# Altium footprint library iot_hdmi_mux.PcbLib: 22 footprints (part 1 of 2)
Each footprint in its own frame and in the unit in brackets; x right, y up, seen from the top. Pads: shape width x height; smd on the part's side, far side on the other; paste and mask are expansions set on the pad; w line width, h text height; cw(c..) or ccw(c..) is an arc to the next point about the centre after c.
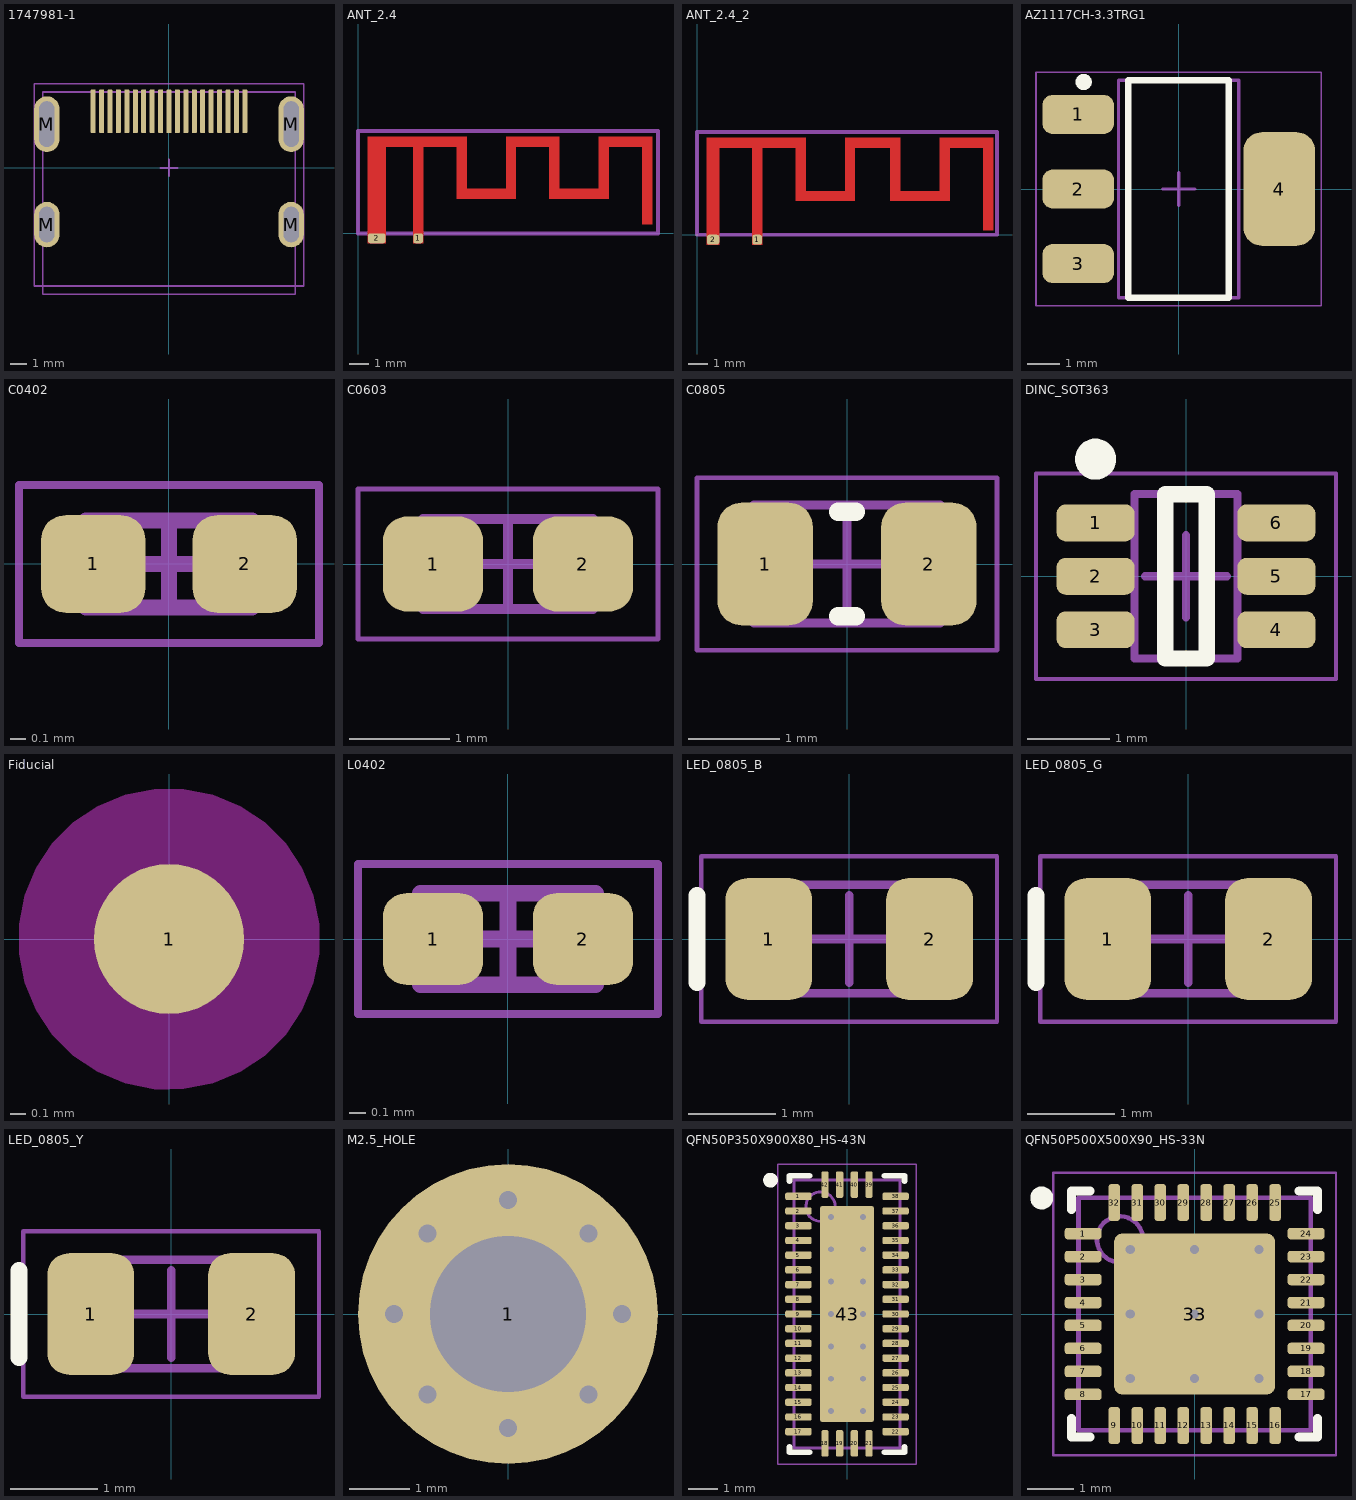
[diagram p0: the footprints below, top view; thin cyan lines are the x and y axes]

## 1747981-1 [mm] "19P Female HDMI Horizontal attachment 500mA -25℃~+70℃ SMD D-Sub / VGA Connectors ROHS"
pads (23):
  rrect50% 0.3x2.6 smd: 1(4.5,3.36) 2(4,3.36) 3(3.5,3.36) 4(3,3.36) 5(2.5,3.36) 6(2,3.36) 7(1.5,3.36) 8(1,3.36) 9(0.5,3.36) 10(0,3.36) 11(-0.5,3.36) 12(-1,3.36) 13(-1.5,3.36) 14(-2,3.36) 15(-2.5,3.36) 16(-3,3.36) 17(-3.5,3.36) 18(-4,3.36) 19(-4.5,3.36)
  oval 1.5x2.7 hole 0.9 slot 2.1 at 90 deg: M(-7.25,-3.36) M(7.25,-3.36)
  oval 1.5x3.3 hole 0.9 slot 2.7 at 90 deg: M(-7.25,2.6) M(7.25,2.6)
Mechanical 13:
  lines w0.1: -7.5,-7.5 -7.5,4.5 7.5,4.5 7.5,-7.5 -7.5,-7.5
Mechanical 15:
  lines w0.1: -0.5,0 0.5,0 ; 0,-0.5 0,0.5 ; -8,-7 -8,5 8,5 8,-7 4,-7 -4,-7 -8,-7
3D body "1747981-2.stp": height 6.1, standoff -1.48, extent -7.5,-7.45 7.5,4.55

## ANT_2.4 [mm] "SWRA117D 2.4GHz antenna design by TI"
pads (2):
  rrect50% 0.5x0.5 smd paste-2539.97 mask+0.102: 1(3.05,-0.25)
  rrect50% 0.9x0.5 smd paste-2539.97 mask+0.102: 2(0.95,-0.25)
Top Layer:
  region: 0.5,-0.5 1.4,-0.5 1.4,4.4 2.8,4.4 2.8,-0.5 3.3,-0.5 3.3,4.4 5,4.4 5,1.76 8,1.76 8,4.4 9.7,4.4 9.7,1.76 12.7,1.76 12.7,4.4 14.4,4.4 14.4,0.46 14.9,0.46 14.9,4.9 12.2,4.9 12.2,2.26 10.2,2.26 10.2,4.9 7.5,4.9 7.5,2.26 5.5,2.26 5.5,4.9 0.5,4.9
Mechanical 15:
  lines w0.2: 0,0 1.4,0 15.2,0 15.2,5.2 0,5.2 0,0

## ANT_2.4_2 [mm] "SWRA117D 2.4GHz antenna design by TI"
pads (2):
  rrect50% 0.5x0.5 smd paste-2539.97 mask+0.102: 1(3.05,-0.25)
  rrect50% 0.63x0.5 smd paste-2539.97 mask+0.102: 2(0.815,-0.25)
Top Layer:
  region: 0.5,-0.5 0.5,4.91 5.5,4.91 5.5,2.21 7.5,2.21 7.5,4.91 10.3,4.91 10.3,2.21 12.3,2.21 12.3,4.91 15,4.91 15,0.24 14.5,0.24 14.5,4.41 12.8,4.41 12.8,1.71 9.8,1.71 9.8,4.41 8,4.41 8,1.71 5,1.71 5,4.41 3.3,4.41 3.3,-0.5 2.8,-0.5 2.8,4.41 1.13,4.41 1.13,-0.5
Mechanical 15:
  lines w0.2: 0,0 1.4,0 15.2,0 15.2,5.2 0,5.2 0,0

## AZ1117CH-3.3TRG1 [mm] "SOT223, 4-Leads, Body 6.51x7.00mm (avg), Pitch 2.30mm, IPC Medium Density"
height 1.8
pads (4):
  rrect50% 2.2x1.2 smd: 1(-3.1,2.3) 2(-3.1,0) 3(-3.1,-2.3)
  rrect50% 2.2x3.5 smd: 4(3.1,0)
Top Overlay:
  circle w0.25: c-2.93,3.3 r0.125
  lines w0.2: -1.55,-3.35 1.55,-3.35 1.55,3.35 -1.55,3.35 -1.55,-3.35
Mechanical 10:
  lines w0.05: -4.4,-3.6 4.4,-3.6 4.4,3.6 -4.4,3.6 -4.4,-3.6
  lines w0.1: -0.5,0 0.5,0 ; 0,-0.5 0,0.5
Mechanical 14:
  lines w0.1: -1.855,-3.355 1.855,-3.355 1.855,3.355 -1.855,3.355 -1.855,-3.355
3D body "SOT230P700X180-4N.step": height 1.8, standoff 0, extent -3.5,-3.355 3.5,3.355

## C0402 [mm] "Chip Capacitor, 2-Leads, Body 1.00x0.50mm, IPC Medium Density"
height 0.55
pads (2):
  rrect50% 0.66x0.62 smd mask+0.05: 1(-0.48,0) 2(0.48,0)
Mechanical 13:
  lines w0.1: -0.525,-0.275 0.525,-0.275 0.525,0.275 -0.525,0.275 -0.525,-0.275
Mechanical 15:
  lines w0.05: -0.95,-0.5 0.95,-0.5 0.95,0.5 -0.95,0.5 -0.95,-0.5
  lines w0.1: -0.275,0 0.275,0 ; 0,-0.275 0,0.275
3D body "CAPC1005X06N.step": height 0.55, standoff 0, extent -0.525,-0.275 0.525,0.275

## C0603 [mm] "Chip Capacitor, 2-Leads, Body 1.60x0.80mm, IPC Medium Density"
height 0.9
pads (2):
  rrect50% 1x0.95 smd: 1(-0.75,0) 2(0.75,0)
Mechanical 13:
  lines w0.1: -0.85,-0.45 -0.85,0.45 0.85,0.45 0.85,-0.45 -0.85,-0.45
Mechanical 15:
  lines w0.05: -1.5,-0.75 -1.5,0.75 1.5,0.75 1.5,-0.75 -1.5,-0.75
  lines w0.1: -0.45,0 0.45,0 ; 0,-0.45 0,0.45
3D body "CAPC1608X09N.step": height 0.9, standoff 0, extent -0.85,-0.45 0.85,0.45

## C0805 [mm] "Chip Capacitor, 2-Leads, Body 2.00x1.25mm, IPC Medium Density"
height 0.6
pads (2):
  rrect50% 1.05x1.35 smd: 1(-0.9,0) 2(0.9,0)
Top Overlay:
  lines w0.2: -0.1,-0.575 0.1,-0.575 ; -0.1,0.575 0.1,0.575
Mechanical 13:
  lines w0.1: -1.025,-0.65 -1.025,0.65 1.025,0.65 1.025,-0.65 -1.025,-0.65
Mechanical 15:
  lines w0.05: -1.65,-0.95 -1.65,0.95 1.65,0.95 1.65,-0.95 -1.65,-0.95
  lines w0.1: -0.5,0 0.5,0 ; 0,-0.5 0,0.5
3D body "CAPC2012X06N.step": height 0.6, standoff 0, extent -1.025,-0.65 1.025,0.65

## DINC_SOT363 [mm] "SOT23, 6-Leads, Body 1.90x2.23mm, Pitch 0.65mm, IPC Medium Density"
height 1
pads (6):
  rrect50% 0.95x0.45 smd: 1(-1.1,0.65) 2(-1.1,0) 3(-1.1,-0.65) 4(1.1,-0.65) 5(1.1,0) 6(1.1,0.65)
Top Overlay:
  circle w0.25: c-1.1,1.425 r0.125
  lines w0.2: -0.25,-1 0.25,-1 0.25,1 -0.25,1 -0.25,-1
Mechanical 13:
  lines w0.1: -0.625,-1 -0.625,1 0.625,1 0.625,-1 -0.625,-1
Mechanical 15:
  lines w0.05: -1.825,-1.25 -1.825,1.25 1.825,1.25 1.825,-1.25 -1.825,-1.25
  lines w0.1: -0.5,0 0.5,0 ; 0,-0.5 0,0.5
3D body "SOT65P222X100-6N.step": height 1, standoff 0, extent -1.225,-1 1.225,1

## Fiducial [mm]
pads (1):
  round 1 smd paste-1: 1(0,0)
Top Layer keep-out:
  region: -1,0 -1,0.098 -0.962,0.292 -0.886,0.474 -0.777,0.637 -0.637,0.777 -0.474,0.886 -0.292,0.962 -0.098,1 0,1 0.098,1 0.292,0.962 0.474,0.886 0.637,0.777 0.777,0.637 0.886,0.474 0.962,0.292 1,0.098 1,0 1,-0.098 0.962,-0.292 0.886,-0.474 0.777,-0.637 0.637,-0.777 0.474,-0.886 0.292,-0.962 0.098,-1 0,-1 -0.098,-1 -0.292,-0.962 -0.474,-0.886 -0.637,-0.777 -0.777,-0.637 -0.886,-0.474 -0.962,-0.292 -1,-0.098
Top Solder:
  region: -1,0 -1,0.098 -0.962,0.292 -0.886,0.474 -0.777,0.637 -0.637,0.777 -0.474,0.886 -0.292,0.962 -0.098,1 0,1 0.098,1 0.292,0.962 0.474,0.886 0.637,0.777 0.777,0.637 0.886,0.474 0.962,0.292 1,0.098 1,0 1,-0.098 0.962,-0.292 0.886,-0.474 0.777,-0.637 0.637,-0.777 0.474,-0.886 0.292,-0.962 0.098,-1 0,-1 -0.098,-1 -0.292,-0.962 -0.474,-0.886 -0.637,-0.777 -0.777,-0.637 -0.886,-0.474 -0.962,-0.292 -1,-0.098

## L0402 [mm] "Chip Resistor, 2-Leads, Body 1.00x0.50mm, IPC Medium Density"
height 0.25
pads (2):
  rrect50% 0.6x0.55 smd mask+0.05: 1(-0.45,0) 2(0.45,0)
Mechanical 13:
  lines w0.1: -0.525,-0.275 0.525,-0.275 0.525,0.275 -0.525,0.275 -0.525,-0.275
Mechanical 15:
  lines w0.05: -0.9,-0.45 0.9,-0.45 0.9,0.45 -0.9,0.45 -0.9,-0.45
  lines w0.1: -0.275,0 0.275,0 ; 0,-0.275 0,0.275
3D body "RESC1005X02N.step": height 0.25, standoff 0, extent -0.525,-0.275 0.525,0.275

## LED_0805_B [mm] "Green 0805 LED"
height 0.9
pads (2):
  rrect50% 1x1.4 smd: 1(-0.925,0) 2(0.925,0)
Top Overlay:
  lines w0.2: -1.75,-0.5 -1.75,0.5
Mechanical 13:
  lines w0.1: -1,-0.625 1,-0.625 1,0.625 -1,0.625 -1,-0.625
Mechanical 15:
  lines w0.05: -1.7,-0.95 1.7,-0.95 1.7,0.95 -1.7,0.95 -1.7,-0.95
  lines w0.1: -0.5,0 0.5,0 ; 0,-0.5 0,0.5
3D body "LED-0805-blue.step": height 0.8, standoff -0.01, extent -1,-0.625 1,0.625

## LED_0805_G [mm] "Green 0805 LED"
height 0.9
pads (2):
  rrect50% 1x1.4 smd: 1(-0.925,0) 2(0.925,0)
Top Overlay:
  lines w0.2: -1.75,-0.5 -1.75,0.5
Mechanical 13:
  lines w0.1: -1,-0.625 1,-0.625 1,0.625 -1,0.625 -1,-0.625
Mechanical 15:
  lines w0.05: -1.7,-0.95 1.7,-0.95 1.7,0.95 -1.7,0.95 -1.7,-0.95
  lines w0.1: -0.5,0 0.5,0 ; 0,-0.5 0,0.5
3D body "LED-0805-emerald.step": height 0.8, standoff -0.01, extent -1,-0.625 1,0.625

## LED_0805_Y [mm] "Yellow 0805 LED"
height 0.9
pads (2):
  rrect50% 1x1.4 smd: 1(-0.925,0) 2(0.925,0)
Top Overlay:
  lines w0.2: -1.75,-0.5 -1.75,0.5
Mechanical 13:
  lines w0.1: -1,-0.625 -1,0.625 1,0.625 1,-0.625 -1,-0.625
Mechanical 15:
  lines w0.05: -1.7,-0.95 -1.7,0.95 1.7,0.95 1.7,-0.95 -1.7,-0.95
  lines w0.1: -0.5,0 0.5,0 ; 0,-0.5 0,0.5
3D body "LED-0805-yellow.step": height 0.8, standoff -0.01, extent -1,-0.625 1,0.625

## M2.5_HOLE [mm]
pads (1):
  round 5 hole 2.6: 1(0,0)
via 1.344,-1.344 diameter 0.7 hole 0.3
via -1.344,-1.344 diameter 0.7 hole 0.3
via -1.344,1.344 diameter 0.7 hole 0.3
via 1.9,0 diameter 0.7 hole 0.3
via 0,-1.9 diameter 0.7 hole 0.3
via -1.9,0 diameter 0.7 hole 0.3
via 0,1.9 diameter 0.7 hole 0.3
via 1.344,1.344 diameter 0.7 hole 0.3

## QFN50P350X900X80_HS-43N [mm] "QFN, 42-Leads, Body 3.50x9.00mm, Pitch 0.50mm, Thermal Pad 2.05x7.55mm, IPC Medium Density"
height 0.8
pads (43):
  rrect50% 0.9x0.25 smd: 1(-1.65,4) 2(-1.65,3.5) 3(-1.65,3) 4(-1.65,2.5) 5(-1.65,2) 6(-1.65,1.5) 7(-1.65,1) 8(-1.65,0.5) 9(-1.65,0) 10(-1.65,-0.5) 11(-1.65,-1) 12(-1.65,-1.5) 13(-1.65,-2) 14(-1.65,-2.5) 15(-1.65,-3) 16(-1.65,-3.5) 17(-1.65,-4) 22(1.65,-4) 23(1.65,-3.5) 24(1.65,-3) 25(1.65,-2.5) 26(1.65,-2) 27(1.65,-1.5) 28(1.65,-1) 29(1.65,-0.5) 30(1.65,0) 31(1.65,0.5) 32(1.65,1) 33(1.65,1.5) 34(1.65,2) 35(1.65,2.5) 36(1.65,3) 37(1.65,3.5) 38(1.65,4)
  rrect50% 0.25x0.9 smd: 18(-0.75,-4.4) 19(-0.25,-4.4) 20(0.25,-4.4) 21(0.75,-4.4) 39(0.75,4.4) 40(0.25,4.4) 41(-0.25,4.4) 42(-0.75,4.4)
  rrect10% 1.85x7.35 smd: 43(0,0)
via -0.55,3.3 diameter 0.55 hole 0.2
via 0.55,3.3 diameter 0.55 hole 0.2
via -0.55,2.2 diameter 0.55 hole 0.2
via 0.55,2.2 diameter 0.55 hole 0.2
via -0.55,1.1 diameter 0.55 hole 0.2
via 0.55,1.1 diameter 0.55 hole 0.2
via -0.55,0 diameter 0.55 hole 0.2
via 0.55,0 diameter 0.55 hole 0.2
via -0.55,-1.1 diameter 0.55 hole 0.2
via 0.55,-1.1 diameter 0.55 hole 0.2
via -0.55,-2.2 diameter 0.55 hole 0.2
via 0.55,-2.2 diameter 0.55 hole 0.2
via -0.55,-3.3 diameter 0.55 hole 0.2
via 0.55,-3.3 diameter 0.55 hole 0.2
Top Overlay:
  circle w0.25: c-2.6,4.55 r0.125
  lines w0.2: -1.95,-4.525 -1.95,-4.7 -1.275,-4.7 ; -1.95,4.525 -1.95,4.7 -1.275,4.7 ; 1.275,-4.7 1.95,-4.7 1.95,-4.525 ; 1.275,4.7 1.95,4.7 1.95,4.525
Mechanical 13:
  circle w0.1: c-0.9,3.65 r0.5
  lines w0.1: -1.8,-4.55 -1.8,4.55 1.8,4.55 1.8,-4.55 -1.8,-4.55
Mechanical 15:
  lines w0.05: -2.35,-5.1 -2.35,5.1 2.35,5.1 2.35,-5.1 -2.35,-5.1
  lines w0.1: -0.5,0 0.5,0 ; 0,-0.5 0,0.5
3D body "QFN50P350X900X80_HS-43N.step": height 0.8, standoff 0, extent -1.88,-4.63 1.88,4.63

## QFN50P500X500X90_HS-33N [mm] "QFN, 32-Leads, Body 5.00x5.00mm, Pitch 0.50mm, Thermal Pad 3.70x3.70mm, IPC Medium Density"
height 0.9
pads (33):
  rrect50% 0.8x0.25 smd: 1(-2.425,1.75) 2(-2.425,1.25) 3(-2.425,0.75) 4(-2.425,0.25) 5(-2.425,-0.25) 6(-2.425,-0.75) 7(-2.425,-1.25) 8(-2.425,-1.75) 17(2.425,-1.75) 18(2.425,-1.25) 19(2.425,-0.75) 20(2.425,-0.25) 21(2.425,0.25) 22(2.425,0.75) 23(2.425,1.25) 24(2.425,1.75)
  rrect50% 0.25x0.8 smd: 9(-1.75,-2.425) 10(-1.25,-2.425) 11(-0.75,-2.425) 12(-0.25,-2.425) 13(0.25,-2.425) 14(0.75,-2.425) 15(1.25,-2.425) 16(1.75,-2.425) 25(1.75,2.425) 26(1.25,2.425) 27(0.75,2.425) 28(0.25,2.425) 29(-0.25,2.425) 30(-0.75,2.425) 31(-1.25,2.425) 32(-1.75,2.425)
  rrect10% 3.5x3.5 smd: 33(0,0)
via -1.4,0 diameter 0.55 hole 0.2
via -1.4,-1.4 diameter 0.55 hole 0.2
via 0,-1.4 diameter 0.55 hole 0.2
via 1.4,-1.4 diameter 0.55 hole 0.2
via 1.4,0 diameter 0.55 hole 0.2
via 1.4,1.4 diameter 0.55 hole 0.2
via 0,1.4 diameter 0.55 hole 0.2
via -1.4,1.4 diameter 0.55 hole 0.2
via 0,0 diameter 0.55 hole 0.2
Top Overlay:
  circle w0.25: c-3.325,2.525 r0.125
  lines w0.2: -2.675,-2.275 -2.675,-2.675 -2.275,-2.675 ; -2.675,2.275 -2.675,2.675 -2.275,2.675 ; 2.275,-2.675 2.675,-2.675 2.675,-2.275 ; 2.275,2.675 2.675,2.675 2.675,2.275
Mechanical 13:
  circle w0.1: c-1.625,1.625 r0.5
  lines w0.1: -2.525,-2.525 2.525,-2.525 2.525,2.525 -2.525,2.525 -2.525,-2.525
Mechanical 15:
  lines w0.05: -3.075,-3.075 3.075,-3.075 3.075,3.075 -3.075,3.075 -3.075,-3.075
  lines w0.1: -0.5,0 0.5,0 ; 0,-0.5 0,0.5
3D body "QFN50P500X500X90_HS-33N.step": height 0.9, standoff 0, extent -2.526,-2.526 2.526,2.526